# Altium schematic symbol library MSS1210-333MEB.SchLib: 1 symbol
Pins are listed as number, name and electrical type; pins without a type are passive.

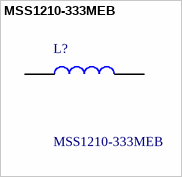
[diagram p0: symbol MSS1210-333MEB]

## MSS1210-333MEB
designator L?
Fixed Inductors 33uH Shld 20% 5.9A 39mOhms AECQ2; Manufacturer_Name: COILCRAFT; Geometry.Height: 10.2mm; Farnell Part Number: *; Farnell Price/Stock: *; Manufacturer_Part_Number: MSS1210-333MEB; Datasheet Link: https://www.coilcraft.com/getmedia/f1a1bc5f-bdff-42f8-9ca8-1a0fb1d5094f/MSS1210.pdf
footprint MSS1210333MEB
pins: 1, 2